# Altium footprint library SAMTEC-A-TSW-103-07-F-S.PCBLIB: 1 footprints
Each footprint in its own frame and in the unit in brackets; x right, y up, seen from the top. Pads: shape width x height; smd on the part's side, far side on the other; paste and mask are expansions set on the pad; w line width, h text height; cw(c..) or ccw(c..) is an arc to the next point about the centre after c.
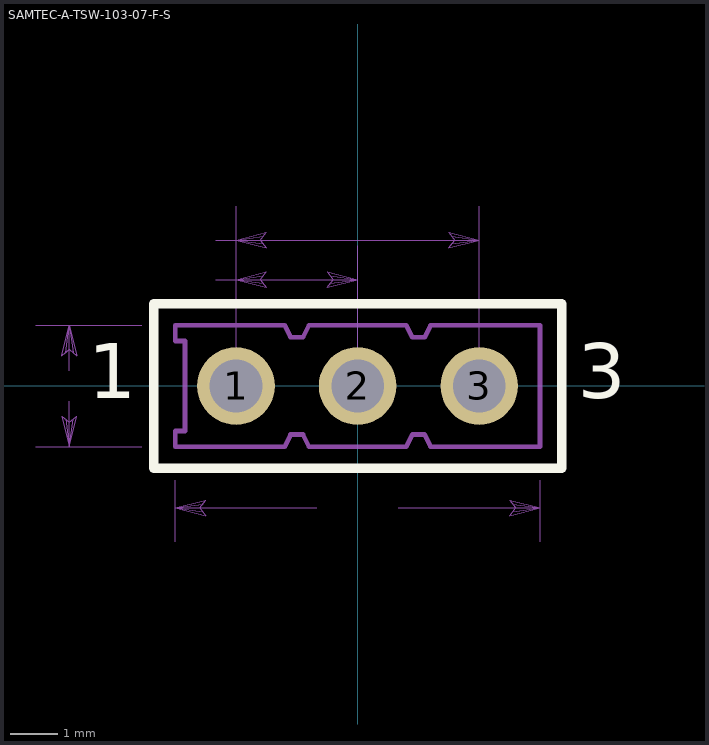
[diagram p0: the footprint, top view; thin cyan lines are the x and y axes]

## SAMTEC-A-TSW-103-07-F-S [mm]
pads (3):
  round 1.62 hole 1.1: 1(-2.54,0) 2(0,0) 3(2.54,0)
Top Overlay:
  lines w0.2: -4.26,-1.72 4.26,-1.72 4.26,1.72 -4.26,1.72 -4.26,-1.72
  text "3" at 4.601,-0.635 h1.97
  text "1" at -5.63,-0.635 h1.97
Top Solder:
  circle w0: c2.54,0 r0.861
  circle w0: c0,0 r0.861
  circle w0: c-2.54,0 r0.861
Bottom Solder:
  circle w0: c2.54,0 r0.861
  circle w0: c0,0 r0.861
  circle w0: c-2.54,0 r0.861
Mechanical 16:
  lines w0.1: -3.81,-1.27 -1.524,-1.27 -1.4,-1.016 -1.27,-1.016 -1.14,-1.016 -1.016,-1.27 1.016,-1.27 1.14,-1.016 1.27,-1.016 1.4,-1.016 1.524,-1.27 3.81,-1.27 3.81,1.27 1.524,1.27 1.4,1.016 1.27,1.016 1.14,1.016 1.016,1.27 -1.016,1.27 -1.14,1.016 -1.27,1.016 -1.4,1.016 -1.524,1.27 -3.81,1.27 -3.81,0.94 -3.607,0.94 -3.607,-0.94 -3.81,-0.94 -3.81,-1.27 ; -2.858,-0.318 -2.222,-0.318 -2.222,0.318 -2.858,0.318 -2.858,-0.318 ; -0.318,-0.318 0.318,-0.318 0.318,0.318 -0.318,0.318 -0.318,-0.318 ; 2.222,-0.318 2.858,-0.318 2.858,0.318 2.222,0.318 2.222,-0.318
  text "3" at 4.601,-0.635 h1.97
  text "1" at -5.63,-0.635 h1.97
Mechanical 40:
  lines w0: -6.721,-1.27 -4.511,-1.27 ; -6.721,1.27 -4.511,1.27 ; -6.02,-0.318 -6.02,-1.27 ; -6.02,0.318 -6.02,1.27 ; -3.81,-3.249 -3.81,-1.971 ; -2.959,2.222 -2.54,2.222 ; -2.959,3.048 -2.54,3.048 ; -2.54,2.924 -2.54,0.701 -2.54,3.749 ; -0.851,-2.548 -3.81,-2.548 ; 0,0.701 0,2.924 ; 0.851,-2.548 3.81,-2.548 ; 2.54,0.701 2.54,3.749 ; 3.81,-3.249 3.81,-1.971 ; -6.179,-0.635 -6.099,-0.698 -6.02,-1.27 ; -6.179,-0.635 -6.02,-0.762 ; -6.179,-0.635 -6.02,-1.27 ; -6.02,-1.27 -6.02,-0.762 ; -6.02,-1.27 -5.94,-0.698 -6.02,-0.762 ; -6.02,-1.27 -5.861,-0.635 -6.02,-0.762 ; -6.02,0.762 -6.02,1.27 ; -6.02,0.762 -6.099,0.698 -6.02,1.27 ; -6.02,0.762 -5.861,0.635 ; -6.02,0.762 -6.179,0.635 -6.02,1.27 ; -6.02,1.27 -5.94,0.698 -5.861,0.635 ; -6.02,1.27 -5.861,0.635 ; -3.81,-2.548 -3.238,-2.468 -3.175,-2.389 ; -3.81,-2.548 -3.302,-2.548 ; -3.81,-2.548 -3.238,-2.627 -3.302,-2.548 ; -3.81,-2.548 -3.175,-2.706 -3.302,-2.548 ; -3.81,-2.548 -3.175,-2.389 ; -3.302,-2.548 -3.175,-2.389 ; -2.54,2.222 0,2.222 ; -2.54,2.222 -1.968,2.302 -1.905,2.381 ; -2.54,2.222 -2.032,2.222 ; -2.54,2.222 -1.968,2.143 -2.032,2.222 ; -2.54,2.222 -1.905,2.064 -2.032,2.222 ; -2.54,2.222 -1.905,2.381 ; -2.54,3.048 2.54,3.048 ; -2.54,3.048 -1.968,3.127 -1.905,3.207 ; -2.54,3.048 -2.032,3.048 ; -2.54,3.048 -1.968,2.969 -2.032,3.048 ; -2.54,3.048 -1.905,2.889 -2.032,3.048 ; -2.54,3.048 -1.905,3.207 ; -2.032,2.222 -1.905,2.381 ; -2.032,3.048 -1.905,3.207 ; -0.635,2.064 -0.572,2.143 0,2.222 ; -0.635,2.064 -0.508,2.222 ; -0.635,2.064 0,2.222 ; -0.508,2.222 0,2.222 ; -0.508,2.222 -0.572,2.302 0,2.222 ; -0.508,2.222 -0.635,2.381 0,2.222 ; 1.905,2.889 1.968,2.969 2.54,3.048 ; 1.905,2.889 2.032,3.048 ; 1.905,2.889 2.54,3.048 ; 2.032,3.048 2.54,3.048 ; 2.032,3.048 1.968,3.127 2.54,3.048 ; 2.032,3.048 1.905,3.207 2.54,3.048 ; 3.175,-2.706 3.238,-2.627 3.81,-2.548 ; 3.175,-2.706 3.302,-2.548 ; 3.175,-2.706 3.81,-2.548 ; 3.302,-2.548 3.81,-2.548 ; 3.302,-2.548 3.238,-2.468 3.81,-2.548 ; 3.302,-2.548 3.175,-2.389 3.81,-2.548
  text "7.620" at -0.66,-2.675 h0.39
  text "5.080" at -4.47,2.921 h0.39
  text "2.540" at -4.47,2.096 h0.39
  text "2.540" at -6.68,-0.127 h0.39
Mechanical 42:
  lines w0.1: -4.26,-1.72 4.26,-1.72 4.26,1.72 -4.26,1.72 -4.26,-1.72
3D body "TSW-103-07-F-S.stp": height 7.89, standoff -3.04, extent -3.81,-1.397 3.937,1.143